# Altium integrated library TI Power Management Lighting and Display.IntLib: 745 symbols (part 15 of 48)
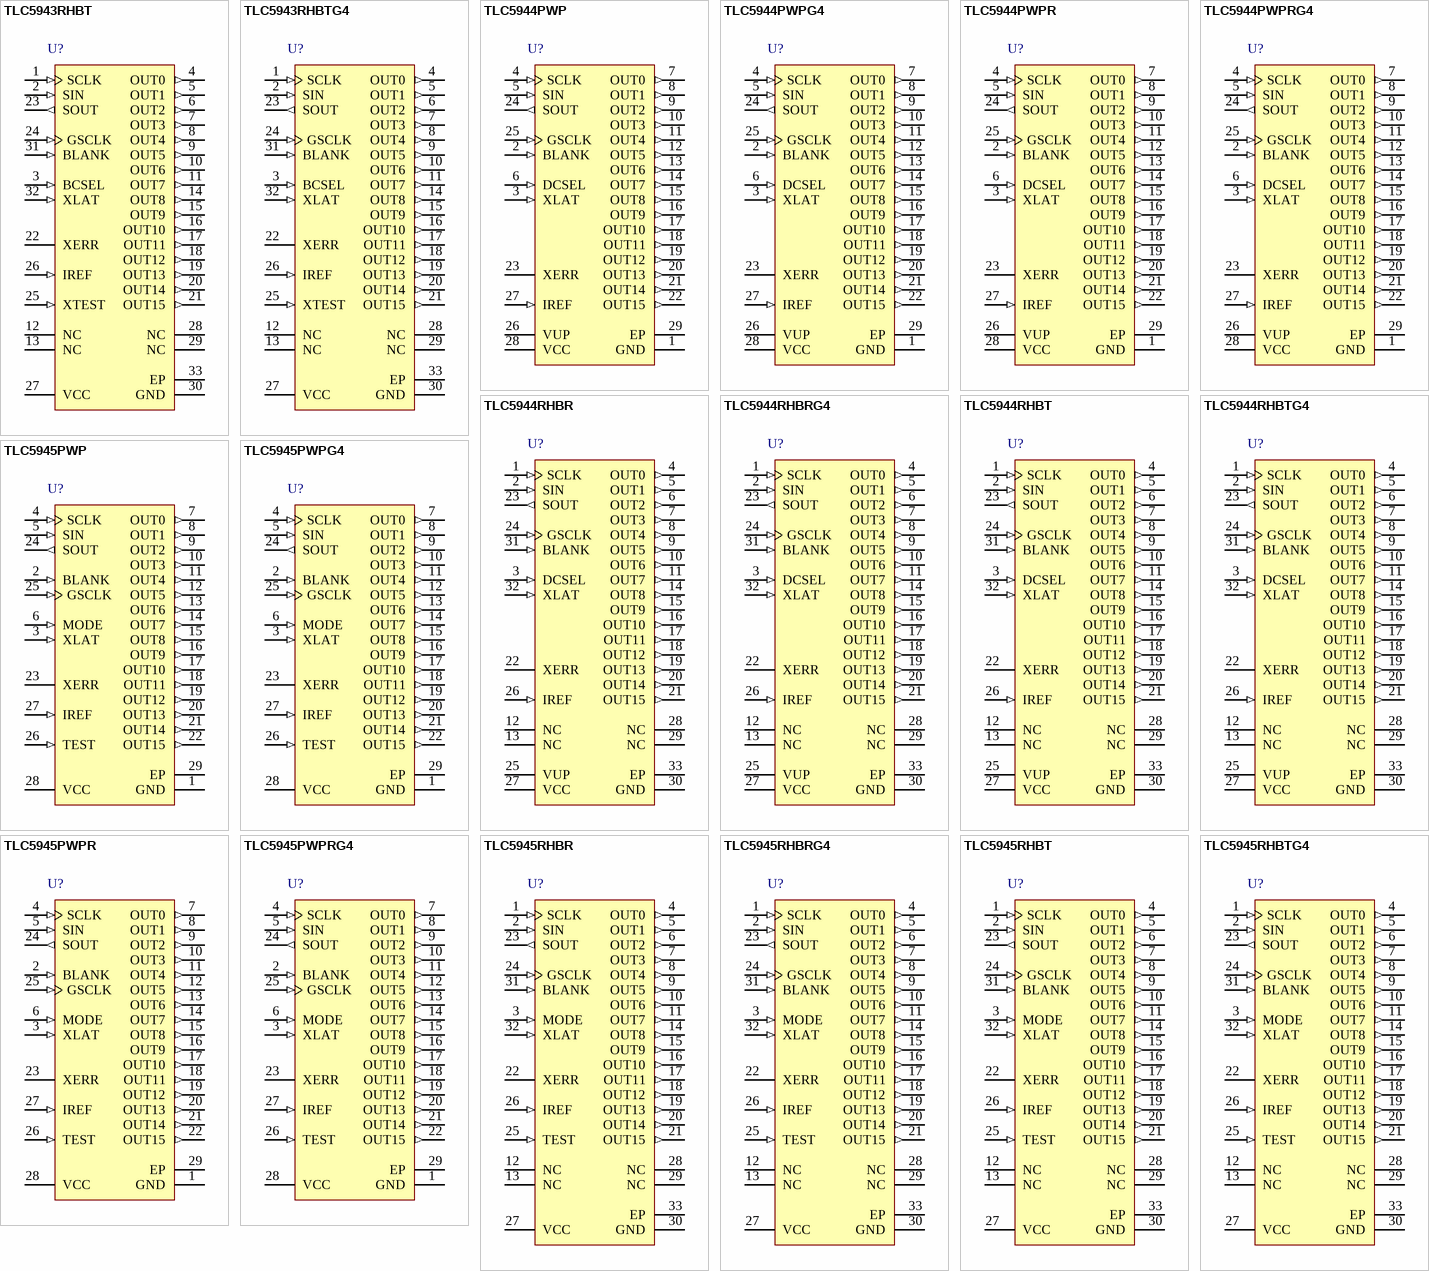
[diagram p45: symbols TLC5943RHBT to TLC5945RHBTG4]

## TLC5945PWPRG4
designator U?
16-Channel LED Driver with DOT Correction & Grayscale PWM Control & No Delay, 3 to 5.5 V, -40 to 85 degC, 28-pin SOP (PWP28), Green (RoHS & no Sb/Br); Manufacturer: Texas Instruments; PartNumber: TLC5945PWPRG4; Rating: Catalog; SubFamily: Signage/Linear; Vin(Max)(V): 5.5; Vin(Min)(V): 3; DatasheetVersion: SLVS755; PackageVersion: 4073225-6/I; PackageReference: PWP28-5720X1950TP; PackageDescription: 28-Pin Plastic Small Outline, Body 4.4 x 9.7 mm, Pitch 0.65 mm; Supplier 1: Digi-Key; Supplier Part Number 1: TLC5945PWPRG4-ND; Supplier 2: Mouser; Supplier Part Number 2: 595-TLC5945PWPRG4; Eco-Plan: Green (RoHS & no Sb/Br); Mounting Technology: Surface Mount; Code_JEDEC: MO-153; ComponentLink1Description: Manufacturer URL; ComponentLink1URL: http://www.ti.com/; ComponentLink2Description: Datasheet; ComponentLink2URL: http://www.ti.com/general/docs/lit/getliterature.tsp?genericPartNumber=TPS60251&fileType=pdf; ComponentLink3Description: Package Specification; ComponentLink3URL: http://www.ti.com/litv/pdf/mpds373
footprint TI-PWP28-5720X1950TP_N (SOP, 28-Leads, Body 9.7x4.4mm, Pitch 0.65mm, Thermal Pad 5.72 x 1.95mm, IPC Medium Density)
footprint TI-PWP28-5720X1950TP_L (SOP, 28-Leads, Body 9.7x4.4mm, Pitch 0.65mm, Thermal Pad 5.72 x 1.95mm, IPC High Density)
footprint TI-PWP28-5720X1950TP_M (SOP, 28-Leads, Body 9.7x4.4mm, Pitch 0.65mm, Thermal Pad 5.72 x 1.95mm, IPC Low Density)
pins: 1 GND (power) "Ground", 2 BLANK (in) "Blank all outputs. When BLANK is high, all OUTn outputs are forced OFF. GS counter is also reset. When BLANK is low, OUTn are controlled by the grayscale PWM control.", 3 XLAT (in) "Level triggered latch signal. When XLAT is high, the TLC59401 writes data from the input shift register to either GS register (MODE is low) or DC register (MODE is high). When XLAT is low, the data in the GS or DC registers (See Datasheet)", 4 SCLK (in) "Serial data shift clock", 5 SIN (in) "Serial data input", 6 MODE (in) "Input mode-change pin. When MODE = GND, the device is in GS mode. When MODE = VCC, the device is in DC mode.", 7 OUT0 (out) "Constant-current output. Multiple outputs can be configured in parallel to increase the constant-current capability. Different voltages can be applied to each output.", 8 OUT1 (out) "Constant-current output", 9 OUT2 (out) "Constant-current output", 10 OUT3 (out) "Constant-current output", 11 OUT4 (out) "Constant-current output", 12 OUT5 (out) "Constant-current output", 13 OUT6 (out) "Constant-current output", 14 OUT7 (out) "Constant-current output", 15 OUT8 (out) "Constant-current output", 16 OUT9 (out) "Constant-current output", 17 OUT10 (out) "Constant-current output", 18 OUT11 (out) "Constant-current output", 19 OUT12 (out) "Constant-current output", 20 OUT13 (out) "Constant-current output", 21 OUT14 (out) "Constant-current output", 22 OUT15 (out) "Constant-current output", 23 XERR (hiz) "Error output. XERR is an open-drain terminal. XERR goes low when LOD or TEF is detected.", 24 SOUT (out) "Serial data output", 25 GSCLK (in) "Reference clock for grayscale PWM control", 26 TEST (in) "Test pin: TEST must be connected to VCC", 27 IREF (in) "Reference current terminal. The maximum current for the outputs OUT0-OUT15 is set with a resistor from IREF to GND. Any capacitance does not need to be connected between IREF and GND.", 28 VCC (power) "Power-supply voltage", 29 EP

## TLC5945RHBR
designator U?
16-Channel LED Driver with DOT Correction & Grayscale PWM Control & No Delay, 3 to 5.5 V, -40 to 85 degC, 32-pin QFN (RHB32), Green (RoHS & no Sb/Br); Manufacturer: Texas Instruments; PartNumber: TLC5945RHBR; Rating: Catalog; SubFamily: Signage/Linear; Vin(Max)(V): 5.5; Vin(Min)(V): 3; DatasheetVersion: SLVS755; PackageVersion: 4204326/D; PackageReference: RHB32-3450X3450TP; PackageDescription: 32-Pin Plastic Flat Pack, Body 5 x 5 mm, Pitch 0.5 mm; Supplier 1: Digi-Key; Supplier Part Number 1: 296-21863-2-ND; Supplier 2: Digi-Key; Supplier Part Number 2: 296-21863-1-ND; Supplier 3: Digi-Key; Supplier Part Number 3: 296-21863-6-ND; Supplier 4: Newark; Supplier Part Number 4: 41M5434; Supplier 5: Mouser; Supplier Part Number 5: 595-TLC5945RHBR; Eco-Plan: Green (RoHS & no Sb/Br); Mounting Technology: Surface Mount; Code_JEDEC: MO-220; ComponentLink1Description: Manufacturer URL; ComponentLink1URL: http://www.ti.com/; ComponentLink2Description: Datasheet; ComponentLink2URL: http://www.ti.com/general/docs/lit/getliterature.tsp?genericPartNumber=TLC5945&fileType=pdf; ComponentLink3Description: Package Specification; ComponentLink3URL: http://www.ti.com/lit/ml/mpqf130c/mpqf130c.pdf
footprint TI-RHB32-3450X3450TP_V (QFN, 32-Leads, Body 5x5mm, Pitch 0.5mm, Thermal Pad 3.45x3.45mm)
pins: 1 SCLK (in) "Serial data shift clock", 2 SIN (in) "Serial data input", 3 MODE (in) "Input mode-change pin. When MODE = GND, the device is in GS mode. When MODE = VCC, the device is in DC mode.", 4 OUT0 (out) "Constant-current output. Multiple outputs can be configured in parallel to increase the constant-current capability. Different voltages can be applied to each output.", 5 OUT1 (out) "Constant-current output", 6 OUT2 (out) "Constant-current output", 7 OUT3 (out) "Constant-current output", 8 OUT4 (out) "Constant-current output", 9 OUT5 (out) "Constant-current output", 10 OUT6 (out) "Constant-current output", 11 OUT7 (out) "Constant-current output", 12 NC "No connection", 13 NC "No connection", 14 OUT8 (out) "Constant-current output", 15 OUT9 (out) "Constant-current output", 16 OUT10 (out) "Constant-current output", 17 OUT11 (out) "Constant-current output", 18 OUT12 (out) "Constant-current output", 19 OUT13 (out) "Constant-current output", 20 OUT14 (out) "Constant-current output", 21 OUT15 (out) "Constant-current output", 22 XERR (hiz) "Error output. XERR is an open-drain terminal. XERR goes low when LOD or TEF is detected.", 23 SOUT (out) "Serial data output", 24 GSCLK (in) "Reference clock for grayscale PWM control", 25 TEST (in) "Test pin: TEST must be connected to VCC", 26 IREF (in) "Reference current terminal. The maximum current for the outputs OUT0-OUT15 is set with a resistor from IREF to GND. Any capacitance does not need to be connected between IREF and GND.", 27 VCC (power) "Power-supply voltage", 28 NC "No connection", 29 NC "No connection", 30 GND (power) "Ground", 31 BLANK (in) "Blank all outputs. When BLANK is high, all OUTn outputs are forced OFF. GS counter is also reset. When BLANK is low, OUTn are controlled by the grayscale PWM control.", 32 XLAT (in) "Level triggered latch signal. When XLAT is high, the TLC59401 writes data from the input shift register to either GS register (MODE is low) or DC register (MODE is high). When XLAT is low, the data in the GS or DC registers (See Datasheet)", 33 EP

## TLC5945RHBRG4
designator U?
16-Channel LED Driver with DOT Correction & Grayscale PWM Control & No Delay, 3 to 5.5 V, -40 to 85 degC, 32-pin QFN (RHB32), Green (RoHS & no Sb/Br); Manufacturer: Texas Instruments; PartNumber: TLC5945RHBRG4; Rating: Catalog; SubFamily: Signage/Linear; Vin(Max)(V): 5.5; Vin(Min)(V): 3; DatasheetVersion: SLVS755; PackageVersion: 4204326/D; PackageReference: RHB32-3450X3450TP; PackageDescription: 32-Pin Plastic Flat Pack, Body 5 x 5 mm, Pitch 0.5 mm; Supplier 1: Digi-Key; Supplier Part Number 1: TLC5945RHBRG4-ND; Supplier 2: Mouser; Supplier Part Number 2: 595-TLC5945RHBRG4; Eco-Plan: Green (RoHS & no Sb/Br); Mounting Technology: Surface Mount; Code_JEDEC: MO-220; ComponentLink1Description: Manufacturer URL; ComponentLink1URL: http://www.ti.com/; ComponentLink2Description: Datasheet; ComponentLink2URL: http://www.ti.com/general/docs/lit/getliterature.tsp?genericPartNumber=TLC5945&fileType=pdf; ComponentLink3Description: Package Specification; ComponentLink3URL: http://www.ti.com/lit/ml/mpqf130c/mpqf130c.pdf
footprint TI-RHB32-3450X3450TP_V (QFN, 32-Leads, Body 5x5mm, Pitch 0.5mm, Thermal Pad 3.45x3.45mm)
pins: 1 SCLK (in) "Serial data shift clock", 2 SIN (in) "Serial data input", 3 MODE (in) "Input mode-change pin. When MODE = GND, the device is in GS mode. When MODE = VCC, the device is in DC mode.", 4 OUT0 (out) "Constant-current output. Multiple outputs can be configured in parallel to increase the constant-current capability. Different voltages can be applied to each output.", 5 OUT1 (out) "Constant-current output", 6 OUT2 (out) "Constant-current output", 7 OUT3 (out) "Constant-current output", 8 OUT4 (out) "Constant-current output", 9 OUT5 (out) "Constant-current output", 10 OUT6 (out) "Constant-current output", 11 OUT7 (out) "Constant-current output", 12 NC "No connection", 13 NC "No connection", 14 OUT8 (out) "Constant-current output", 15 OUT9 (out) "Constant-current output", 16 OUT10 (out) "Constant-current output", 17 OUT11 (out) "Constant-current output", 18 OUT12 (out) "Constant-current output", 19 OUT13 (out) "Constant-current output", 20 OUT14 (out) "Constant-current output", 21 OUT15 (out) "Constant-current output", 22 XERR (hiz) "Error output. XERR is an open-drain terminal. XERR goes low when LOD or TEF is detected.", 23 SOUT (out) "Serial data output", 24 GSCLK (in) "Reference clock for grayscale PWM control", 25 TEST (in) "Test pin: TEST must be connected to VCC", 26 IREF (in) "Reference current terminal. The maximum current for the outputs OUT0-OUT15 is set with a resistor from IREF to GND. Any capacitance does not need to be connected between IREF and GND.", 27 VCC (power) "Power-supply voltage", 28 NC "No connection", 29 NC "No connection", 30 GND (power) "Ground", 31 BLANK (in) "Blank all outputs. When BLANK is high, all OUTn outputs are forced OFF. GS counter is also reset. When BLANK is low, OUTn are controlled by the grayscale PWM control.", 32 XLAT (in) "Level triggered latch signal. When XLAT is high, the TLC59401 writes data from the input shift register to either GS register (MODE is low) or DC register (MODE is high). When XLAT is low, the data in the GS or DC registers (See Datasheet)", 33 EP

## TLC5945RHBT
designator U?
16-Channel LED Driver with DOT Correction & Grayscale PWM Control & No Delay, 3 to 5.5 V, -40 to 85 degC, 32-pin QFN (RHB32), Green (RoHS & no Sb/Br); Manufacturer: Texas Instruments; PartNumber: TLC5945RHBT; Rating: Catalog; SubFamily: Signage/Linear; Vin(Max)(V): 5.5; Vin(Min)(V): 3; DatasheetVersion: SLVS755; PackageVersion: 4204326/D; PackageReference: RHB32-3450X3450TP; PackageDescription: 32-Pin Plastic Flat Pack, Body 5 x 5 mm, Pitch 0.5 mm; Supplier 1: Digi-Key; Supplier Part Number 1: TLC5945RHBT-ND; Supplier 2: Mouser; Supplier Part Number 2: 595-TLC5945RHBT; Eco-Plan: Green (RoHS & no Sb/Br); Mounting Technology: Surface Mount; Code_JEDEC: MO-220; ComponentLink1Description: Manufacturer URL; ComponentLink1URL: http://www.ti.com/; ComponentLink2Description: Datasheet; ComponentLink2URL: http://www.ti.com/general/docs/lit/getliterature.tsp?genericPartNumber=TLC5945&fileType=pdf; ComponentLink3Description: Package Specification; ComponentLink3URL: http://www.ti.com/lit/ml/mpqf130c/mpqf130c.pdf
footprint TI-RHB32-3450X3450TP_V (QFN, 32-Leads, Body 5x5mm, Pitch 0.5mm, Thermal Pad 3.45x3.45mm)
pins: 1 SCLK (in) "Serial data shift clock", 2 SIN (in) "Serial data input", 3 MODE (in) "Input mode-change pin. When MODE = GND, the device is in GS mode. When MODE = VCC, the device is in DC mode.", 4 OUT0 (out) "Constant-current output. Multiple outputs can be configured in parallel to increase the constant-current capability. Different voltages can be applied to each output.", 5 OUT1 (out) "Constant-current output", 6 OUT2 (out) "Constant-current output", 7 OUT3 (out) "Constant-current output", 8 OUT4 (out) "Constant-current output", 9 OUT5 (out) "Constant-current output", 10 OUT6 (out) "Constant-current output", 11 OUT7 (out) "Constant-current output", 12 NC "No connection", 13 NC "No connection", 14 OUT8 (out) "Constant-current output", 15 OUT9 (out) "Constant-current output", 16 OUT10 (out) "Constant-current output", 17 OUT11 (out) "Constant-current output", 18 OUT12 (out) "Constant-current output", 19 OUT13 (out) "Constant-current output", 20 OUT14 (out) "Constant-current output", 21 OUT15 (out) "Constant-current output", 22 XERR (hiz) "Error output. XERR is an open-drain terminal. XERR goes low when LOD or TEF is detected.", 23 SOUT (out) "Serial data output", 24 GSCLK (in) "Reference clock for grayscale PWM control", 25 TEST (in) "Test pin: TEST must be connected to VCC", 26 IREF (in) "Reference current terminal. The maximum current for the outputs OUT0-OUT15 is set with a resistor from IREF to GND. Any capacitance does not need to be connected between IREF and GND.", 27 VCC (power) "Power-supply voltage", 28 NC "No connection", 29 NC "No connection", 30 GND (power) "Ground", 31 BLANK (in) "Blank all outputs. When BLANK is high, all OUTn outputs are forced OFF. GS counter is also reset. When BLANK is low, OUTn are controlled by the grayscale PWM control.", 32 XLAT (in) "Level triggered latch signal. When XLAT is high, the TLC59401 writes data from the input shift register to either GS register (MODE is low) or DC register (MODE is high). When XLAT is low, the data in the GS or DC registers (See Datasheet)", 33 EP

## TLC5945RHBTG4
designator U?
16-Channel LED Driver with DOT Correction & Grayscale PWM Control & No Delay, 3 to 5.5 V, -40 to 85 degC, 32-pin QFN (RHB32), Green (RoHS & no Sb/Br); Manufacturer: Texas Instruments; PartNumber: TLC5945RHBTG4; Rating: Catalog; SubFamily: Signage/Linear; Vin(Max)(V): 5.5; Vin(Min)(V): 3; DatasheetVersion: SLVS755; PackageVersion: 4204326/D; PackageReference: RHB32-3450X3450TP; PackageDescription: 32-Pin Plastic Flat Pack, Body 5 x 5 mm, Pitch 0.5 mm; Supplier 1: Digi-Key; Supplier Part Number 1: TLC5945RHBTG4-ND; Supplier 2: Mouser; Supplier Part Number 2: 595-TLC5945RHBTG4; Eco-Plan: Green (RoHS & no Sb/Br); Mounting Technology: Surface Mount; Code_JEDEC: MO-220; ComponentLink1Description: Manufacturer URL; ComponentLink1URL: http://www.ti.com/; ComponentLink2Description: Datasheet; ComponentLink2URL: http://www.ti.com/general/docs/lit/getliterature.tsp?genericPartNumber=TLC5945&fileType=pdf; ComponentLink3Description: Package Specification; ComponentLink3URL: http://www.ti.com/lit/ml/mpqf130c/mpqf130c.pdf
footprint TI-RHB32-3450X3450TP_V (QFN, 32-Leads, Body 5x5mm, Pitch 0.5mm, Thermal Pad 3.45x3.45mm)
pins: 1 SCLK (in) "Serial data shift clock", 2 SIN (in) "Serial data input", 3 MODE (in) "Input mode-change pin. When MODE = GND, the device is in GS mode. When MODE = VCC, the device is in DC mode.", 4 OUT0 (out) "Constant-current output. Multiple outputs can be configured in parallel to increase the constant-current capability. Different voltages can be applied to each output.", 5 OUT1 (out) "Constant-current output", 6 OUT2 (out) "Constant-current output", 7 OUT3 (out) "Constant-current output", 8 OUT4 (out) "Constant-current output", 9 OUT5 (out) "Constant-current output", 10 OUT6 (out) "Constant-current output", 11 OUT7 (out) "Constant-current output", 12 NC "No connection", 13 NC "No connection", 14 OUT8 (out) "Constant-current output", 15 OUT9 (out) "Constant-current output", 16 OUT10 (out) "Constant-current output", 17 OUT11 (out) "Constant-current output", 18 OUT12 (out) "Constant-current output", 19 OUT13 (out) "Constant-current output", 20 OUT14 (out) "Constant-current output", 21 OUT15 (out) "Constant-current output", 22 XERR (hiz) "Error output. XERR is an open-drain terminal. XERR goes low when LOD or TEF is detected.", 23 SOUT (out) "Serial data output", 24 GSCLK (in) "Reference clock for grayscale PWM control", 25 TEST (in) "Test pin: TEST must be connected to VCC", 26 IREF (in) "Reference current terminal. The maximum current for the outputs OUT0-OUT15 is set with a resistor from IREF to GND. Any capacitance does not need to be connected between IREF and GND.", 27 VCC (power) "Power-supply voltage", 28 NC "No connection", 29 NC "No connection", 30 GND (power) "Ground", 31 BLANK (in) "Blank all outputs. When BLANK is high, all OUTn outputs are forced OFF. GS counter is also reset. When BLANK is low, OUTn are controlled by the grayscale PWM control.", 32 XLAT (in) "Level triggered latch signal. When XLAT is high, the TLC59401 writes data from the input shift register to either GS register (MODE is low) or DC register (MODE is high). When XLAT is low, the data in the GS or DC registers (See Datasheet)", 33 EP

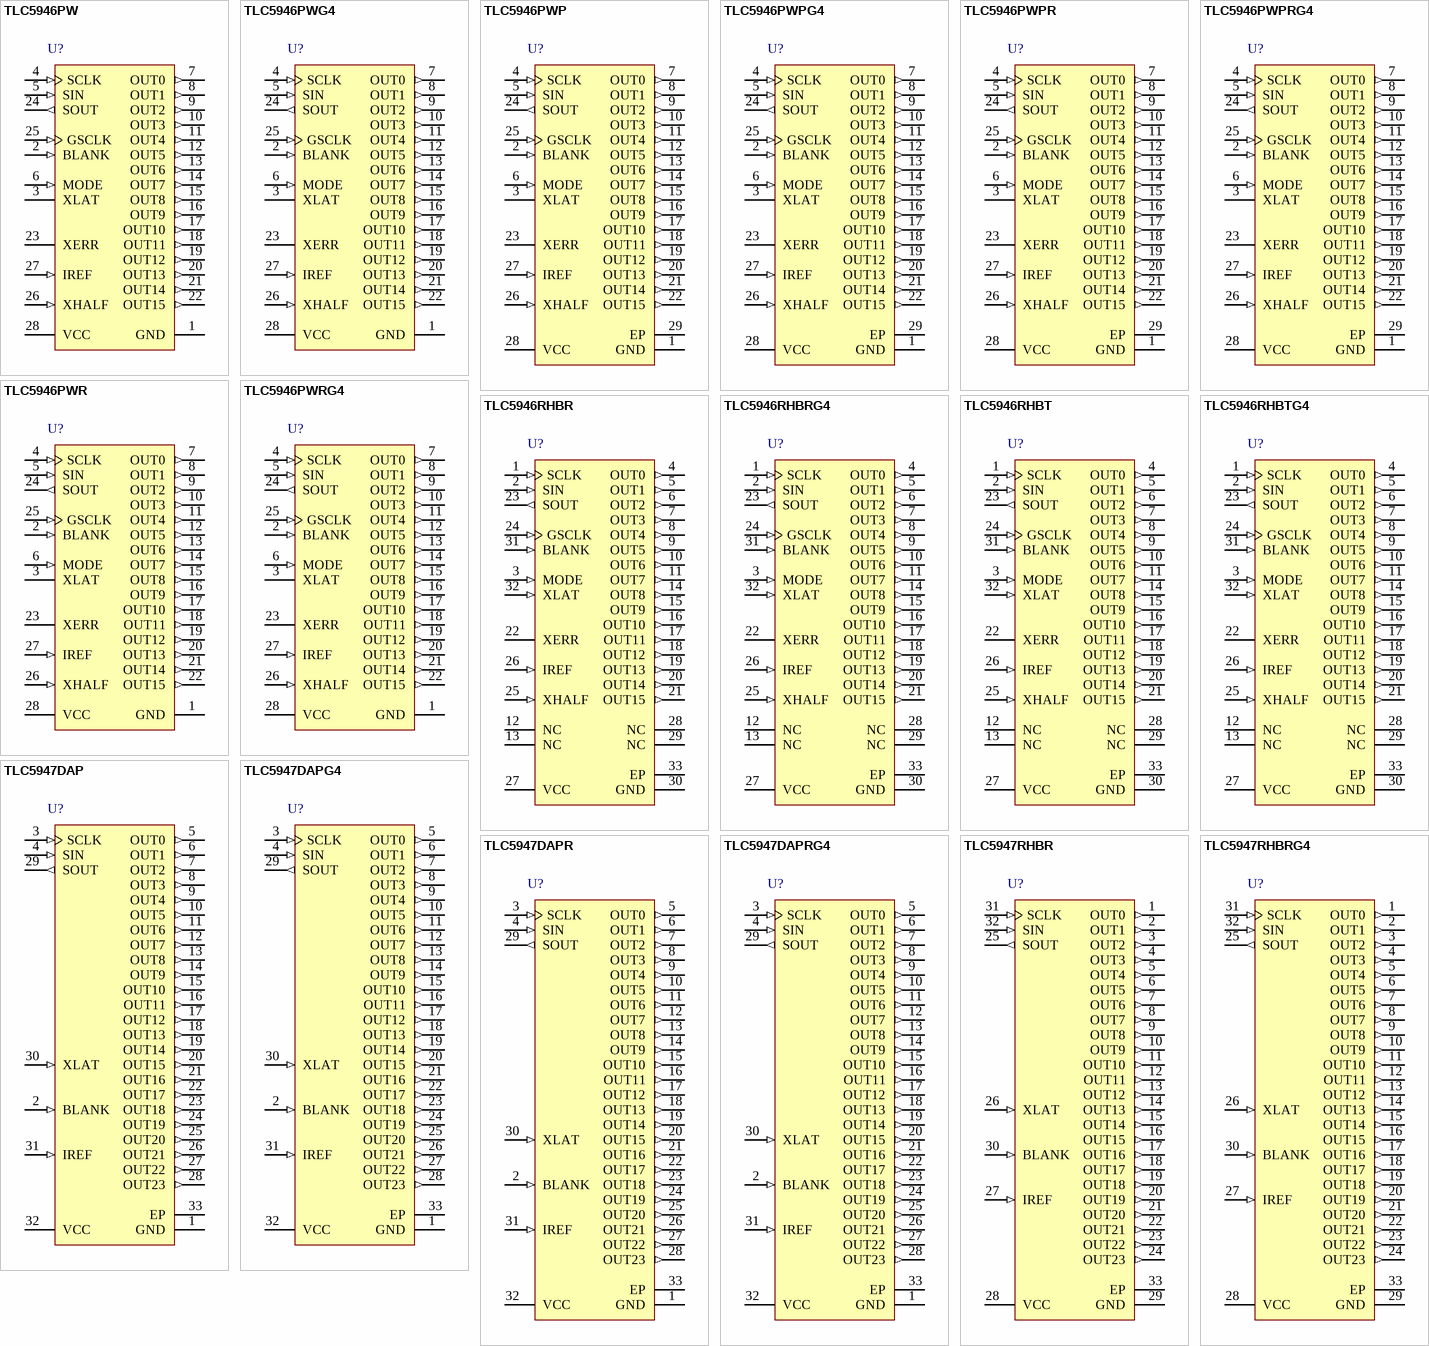
[diagram p11: symbols TLC5946PW to TLC5947RHBRG4]

## TLC5946PW
designator U?
16-Channel, 12-Bit PWM LED Driver with 6-Bit DOT Correction, 3 to 5.5 V, -40 to 85 degC, 28-pin SOP (PW28), Green (RoHS & no Sb/Br); Manufacturer: Texas Instruments; PartNumber: TLC5946PW; Iout(Max)(A): 0.04; Rating: Catalog; Vin(Max)(V): 5.5; Vin(Min)(V): 3; DatasheetVersion: SLVS824B; PackageVersion: 4040064-7/G; PackageReference: PW28; PackageDescription: 28-Pin Plastic Small Outline, Body 9.7 x 4.4 mm, Pitch 0.65 mm; Supplier 1: Digi-Key; Supplier Part Number 1: 296-23391-5-ND; Supplier 2: Newark; Supplier Part Number 2: 96M4786; Supplier 3: Mouser; Supplier Part Number 3: 595-TLC5946PW; Eco-Plan: Green (RoHS & no Sb/Br); SubFamily: LED Driver; Mounting Technology: Surface Mount; Code_JEDEC: MO-153; ComponentLink1Description: Manufacturer URL; ComponentLink1URL: http://www.ti.com/; ComponentLink2Description: Datasheet; ComponentLink2URL: http://www.ti.com/general/docs/lit/getliterature.tsp?genericPartNumber=TLC5946&fileType=pdf; ComponentLink3Description: Package Specification; ComponentLink3URL: http://www.ti.com/litv/pdf/mpds364
footprint TI-PW28_N (SOP, 28-Leads, Body 9.7x4.4mm, Pitch 0.65mm, IPC Medium Density)
footprint TI-PW28_L (SOP, 28-Leads, Body 9.7x4.4mm, Pitch 0.65mm, IPC High Density)
footprint TI-PW28_M (SOP, 28-Leads, Body 9.7x4.4mm, Pitch 0.65mm, IPC Low Density)
pins: 1 GND (power) "Ground", 2 BLANK (in) "Blank (all constant current outputs off). When BLANK is high, all constant current outputs (OUT0 through OUT15) are forced off, the Grayscale PWM timing controller initializes and the Grayscale counter resets to '0'. When (See Datasheet)", 3 XLAT "Edge triggered latch signal. At the rising edge of XLAT, the TLC5946 writes data from the input shift register to either the Dot Correction register (MODE = high) or the Grayscale register (MODE = low).", 4 SCLK (in) "Serial data shift clock", 5 SIN (in) "Serial data input", 6 MODE (in) "Input mode pin. When MODE is high, the input mode is dot correction (DC). When MODE is low, the input mode is grayscale (GS).", 7 OUT0 (out) "Constant current output", 8 OUT1 (out) "Constant current output", 9 OUT2 (out) "Constant current output", 10 OUT3 (out) "Constant current output", 11 OUT4 (out) "Constant current output", 12 OUT5 (out) "Constant current output", 13 OUT6 (out) "Constant current output", 14 OUT7 (out) "Constant current output", 15 OUT8 (out) "Constant current output", 16 OUT9 (out) "Constant current output", 17 OUT10 (out) "Constant current output", 18 OUT11 (out) "Constant current output", 19 OUT12 (out) "Constant current output", 20 OUT13 (out) "Constant current output", 21 OUT14 (out) "Constant current output", 22 OUT15 (out) "Constant current output", 23 XERR (hiz) "Error output. Open-drain output. XERR goes low when LOD or TEF is detected.", 24 SOUT (out) "Serial data output", 25 GSCLK (in) "Reference clock for Grayscale PWM control.", 26 XHALF (in) "Extended serial interface. When XHALF is high, the device operates normally. When XHALF is low, the extended serial interface is activated.", 27 IREF (in) "This pin sets the constant current value. OUT0 through OUT15 sink constant current is set to desired value by connecting an external resistor between IREF and GND.", 28 VCC (power) "Power-supply voltage"

## TLC5946PWG4
designator U?
16-Channel, 12-Bit PWM LED Driver with 6-Bit DOT Correction, 3 to 5.5 V, -40 to 85 degC, 28-pin SOP (PW28), Green (RoHS & no Sb/Br); Manufacturer: Texas Instruments; PartNumber: TLC5946PWG4; Iout(Max)(A): 0.04; Rating: Catalog; Vin(Max)(V): 5.5; Vin(Min)(V): 3; DatasheetVersion: SLVS824B; PackageVersion: 4040064-7/G; PackageReference: PW28; PackageDescription: 28-Pin Plastic Small Outline, Body 9.7 x 4.4 mm, Pitch 0.65 mm; Supplier 1: Digi-Key; Supplier Part Number 1: TLC5946PWG4-ND; Supplier 2: Mouser; Supplier Part Number 2: 595-TLC5946PWG4; Eco-Plan: Green (RoHS & no Sb/Br); SubFamily: LED Driver; Mounting Technology: Surface Mount; Code_JEDEC: MO-153; ComponentLink1Description: Manufacturer URL; ComponentLink1URL: http://www.ti.com/; ComponentLink2Description: Datasheet; ComponentLink2URL: http://www.ti.com/general/docs/lit/getliterature.tsp?genericPartNumber=TLC5946&fileType=pdf; ComponentLink3Description: Package Specification; ComponentLink3URL: http://www.ti.com/litv/pdf/mpds364
footprint TI-PW28_N (SOP, 28-Leads, Body 9.7x4.4mm, Pitch 0.65mm, IPC Medium Density)
footprint TI-PW28_L (SOP, 28-Leads, Body 9.7x4.4mm, Pitch 0.65mm, IPC High Density)
footprint TI-PW28_M (SOP, 28-Leads, Body 9.7x4.4mm, Pitch 0.65mm, IPC Low Density)
pins: 1 GND (power) "Ground", 2 BLANK (in) "Blank (all constant current outputs off). When BLANK is high, all constant current outputs (OUT0 through OUT15) are forced off, the Grayscale PWM timing controller initializes and the Grayscale counter resets to '0'. When (See Datasheet)", 3 XLAT "Edge triggered latch signal. At the rising edge of XLAT, the TLC5946 writes data from the input shift register to either the Dot Correction register (MODE = high) or the Grayscale register (MODE = low).", 4 SCLK (in) "Serial data shift clock", 5 SIN (in) "Serial data input", 6 MODE (in) "Input mode pin. When MODE is high, the input mode is dot correction (DC). When MODE is low, the input mode is grayscale (GS).", 7 OUT0 (out) "Constant current output", 8 OUT1 (out) "Constant current output", 9 OUT2 (out) "Constant current output", 10 OUT3 (out) "Constant current output", 11 OUT4 (out) "Constant current output", 12 OUT5 (out) "Constant current output", 13 OUT6 (out) "Constant current output", 14 OUT7 (out) "Constant current output", 15 OUT8 (out) "Constant current output", 16 OUT9 (out) "Constant current output", 17 OUT10 (out) "Constant current output", 18 OUT11 (out) "Constant current output", 19 OUT12 (out) "Constant current output", 20 OUT13 (out) "Constant current output", 21 OUT14 (out) "Constant current output", 22 OUT15 (out) "Constant current output", 23 XERR (hiz) "Error output. Open-drain output. XERR goes low when LOD or TEF is detected.", 24 SOUT (out) "Serial data output", 25 GSCLK (in) "Reference clock for Grayscale PWM control.", 26 XHALF (in) "Extended serial interface. When XHALF is high, the device operates normally. When XHALF is low, the extended serial interface is activated.", 27 IREF (in) "This pin sets the constant current value. OUT0 through OUT15 sink constant current is set to desired value by connecting an external resistor between IREF and GND.", 28 VCC (power) "Power-supply voltage"

## TLC5946PWP
designator U?
16-Channel, 12-Bit PWM LED Driver with 6-Bit DOT Correction, 3 to 5.5 V, -40 to 85 degC, 28-pin SOP (PWP28), Green (RoHS & no Sb/Br); Manufacturer: Texas Instruments; PartNumber: TLC5946PWP; Iout(Max)(A): 0.04; Rating: Catalog; Vin(Max)(V): 5.5; Vin(Min)(V): 3; DatasheetVersion: SLVS824B; PackageVersion: 4073225-6/I; PackageReference: PWP28-5720X1950TP; PackageDescription: 28-Pin Plastic Small Outline, Body 4.4 x 9.7 mm, Pitch 0.65 mm; Supplier 1: Digi-Key; Supplier Part Number 1: 296-23392-5-ND; Supplier 2: Farnell; Supplier Part Number 2: 1755258; Supplier 3: Newark; Supplier Part Number 3: 96M4787; Supplier 4: Mouser; Supplier Part Number 4: 595-TLC5946PWP; Eco-Plan: Green (RoHS & no Sb/Br); SubFamily: LED Driver; Mounting Technology: Surface Mount; Code_JEDEC: MO-153; ComponentLink1Description: Manufacturer URL; ComponentLink1URL: http://www.ti.com/; ComponentLink2Description: Datasheet; ComponentLink2URL: http://www.ti.com/general/docs/lit/getliterature.tsp?genericPartNumber=TLC5946&fileType=pdf; ComponentLink3Description: Package Specification; ComponentLink3URL: http://www.ti.com/litv/pdf/mpds373
footprint TI-PWP28-5720X1950TP_N (SOP, 28-Leads, Body 9.7x4.4mm, Pitch 0.65mm, Thermal Pad 5.72 x 1.95mm, IPC Medium Density)
footprint TI-PWP28-5720X1950TP_L (SOP, 28-Leads, Body 9.7x4.4mm, Pitch 0.65mm, Thermal Pad 5.72 x 1.95mm, IPC High Density)
footprint TI-PWP28-5720X1950TP_M (SOP, 28-Leads, Body 9.7x4.4mm, Pitch 0.65mm, Thermal Pad 5.72 x 1.95mm, IPC Low Density)
pins: 1 GND (power) "Ground", 2 BLANK (in) "Blank (all constant current outputs off). When BLANK is high, all constant current outputs (OUT0 through OUT15) are forced off, the Grayscale PWM timing controller initializes and the Grayscale counter resets to '0'. When (See Datasheet)", 3 XLAT "Edge triggered latch signal. At the rising edge of XLAT, the TLC5946 writes data from the input shift register to either the Dot Correction register (MODE = high) or the Grayscale register (MODE = low).", 4 SCLK (in) "Serial data shift clock", 5 SIN (in) "Serial data input", 6 MODE (in) "Input mode pin. When MODE is high, the input mode is dot correction (DC). When MODE is low, the input mode is grayscale (GS).", 7 OUT0 (out) "Constant current output", 8 OUT1 (out) "Constant current output", 9 OUT2 (out) "Constant current output", 10 OUT3 (out) "Constant current output", 11 OUT4 (out) "Constant current output", 12 OUT5 (out) "Constant current output", 13 OUT6 (out) "Constant current output", 14 OUT7 (out) "Constant current output", 15 OUT8 (out) "Constant current output", 16 OUT9 (out) "Constant current output", 17 OUT10 (out) "Constant current output", 18 OUT11 (out) "Constant current output", 19 OUT12 (out) "Constant current output", 20 OUT13 (out) "Constant current output", 21 OUT14 (out) "Constant current output", 22 OUT15 (out) "Constant current output", 23 XERR (hiz) "Error output. Open-drain output. XERR goes low when LOD or TEF is detected.", 24 SOUT (out) "Serial data output", 25 GSCLK (in) "Reference clock for Grayscale PWM control.", 26 XHALF (in) "Extended serial interface. When XHALF is high, the device operates normally. When XHALF is low, the extended serial interface is activated.", 27 IREF (in) "This pin sets the constant current value. OUT0 through OUT15 sink constant current is set to desired value by connecting an external resistor between IREF and GND.", 28 VCC (power) "Power-supply voltage", 29 EP

## TLC5946PWPG4
designator U?
16-Channel, 12-Bit PWM LED Driver with 6-Bit DOT Correction, 3 to 5.5 V, -40 to 85 degC, 28-pin SOP (PWP28), Green (RoHS & no Sb/Br); Manufacturer: Texas Instruments; PartNumber: TLC5946PWPG4; Iout(Max)(A): 0.04; Rating: Catalog; Vin(Max)(V): 5.5; Vin(Min)(V): 3; DatasheetVersion: SLVS824B; PackageVersion: 4073225-6/I; PackageReference: PWP28-5720X1950TP; PackageDescription: 28-Pin Plastic Small Outline, Body 4.4 x 9.7 mm, Pitch 0.65 mm; Supplier 1: Digi-Key; Supplier Part Number 1: TLC5946PWPG4-ND; Supplier 2: Mouser; Supplier Part Number 2: 595-TLC5946PWPG4; Eco-Plan: Green (RoHS & no Sb/Br); SubFamily: LED Driver; Mounting Technology: Surface Mount; Code_JEDEC: MO-153; ComponentLink1Description: Manufacturer URL; ComponentLink1URL: http://www.ti.com/; ComponentLink2Description: Datasheet; ComponentLink2URL: http://www.ti.com/general/docs/lit/getliterature.tsp?genericPartNumber=TLC5946&fileType=pdf; ComponentLink3Description: Package Specification; ComponentLink3URL: http://www.ti.com/litv/pdf/mpds373
footprint TI-PWP28-5720X1950TP_N (SOP, 28-Leads, Body 9.7x4.4mm, Pitch 0.65mm, Thermal Pad 5.72 x 1.95mm, IPC Medium Density)
footprint TI-PWP28-5720X1950TP_L (SOP, 28-Leads, Body 9.7x4.4mm, Pitch 0.65mm, Thermal Pad 5.72 x 1.95mm, IPC High Density)
footprint TI-PWP28-5720X1950TP_M (SOP, 28-Leads, Body 9.7x4.4mm, Pitch 0.65mm, Thermal Pad 5.72 x 1.95mm, IPC Low Density)
pins: 1 GND (power) "Ground", 2 BLANK (in) "Blank (all constant current outputs off). When BLANK is high, all constant current outputs (OUT0 through OUT15) are forced off, the Grayscale PWM timing controller initializes and the Grayscale counter resets to '0'. When (See Datasheet)", 3 XLAT "Edge triggered latch signal. At the rising edge of XLAT, the TLC5946 writes data from the input shift register to either the Dot Correction register (MODE = high) or the Grayscale register (MODE = low).", 4 SCLK (in) "Serial data shift clock", 5 SIN (in) "Serial data input", 6 MODE (in) "Input mode pin. When MODE is high, the input mode is dot correction (DC). When MODE is low, the input mode is grayscale (GS).", 7 OUT0 (out) "Constant current output", 8 OUT1 (out) "Constant current output", 9 OUT2 (out) "Constant current output", 10 OUT3 (out) "Constant current output", 11 OUT4 (out) "Constant current output", 12 OUT5 (out) "Constant current output", 13 OUT6 (out) "Constant current output", 14 OUT7 (out) "Constant current output", 15 OUT8 (out) "Constant current output", 16 OUT9 (out) "Constant current output", 17 OUT10 (out) "Constant current output", 18 OUT11 (out) "Constant current output", 19 OUT12 (out) "Constant current output", 20 OUT13 (out) "Constant current output", 21 OUT14 (out) "Constant current output", 22 OUT15 (out) "Constant current output", 23 XERR (hiz) "Error output. Open-drain output. XERR goes low when LOD or TEF is detected.", 24 SOUT (out) "Serial data output", 25 GSCLK (in) "Reference clock for Grayscale PWM control.", 26 XHALF (in) "Extended serial interface. When XHALF is high, the device operates normally. When XHALF is low, the extended serial interface is activated.", 27 IREF (in) "This pin sets the constant current value. OUT0 through OUT15 sink constant current is set to desired value by connecting an external resistor between IREF and GND.", 28 VCC (power) "Power-supply voltage", 29 EP

## TLC5946PWPR
designator U?
16-Channel, 12-Bit PWM LED Driver with 6-Bit DOT Correction, 3 to 5.5 V, -40 to 85 degC, 28-pin SOP (PWP28), Green (RoHS & no Sb/Br); Manufacturer: Texas Instruments; PartNumber: TLC5946PWPR; Iout(Max)(A): 0.04; Rating: Catalog; Vin(Max)(V): 5.5; Vin(Min)(V): 3; DatasheetVersion: SLVS824B; PackageVersion: 4073225-6/I; PackageReference: PWP28-5720X1950TP; PackageDescription: 28-Pin Plastic Small Outline, Body 4.4 x 9.7 mm, Pitch 0.65 mm; Supplier 1: Digi-Key; Supplier Part Number 1: TLC5946PWPR-ND; Supplier 2: Newark; Supplier Part Number 2: 96M4788; Supplier 3: Mouser; Supplier Part Number 3: 595-TLC5946PWPR; Eco-Plan: Green (RoHS & no Sb/Br); SubFamily: LED Driver; Mounting Technology: Surface Mount; Code_JEDEC: MO-153; ComponentLink1Description: Manufacturer URL; ComponentLink1URL: http://www.ti.com/; ComponentLink2Description: Datasheet; ComponentLink2URL: http://www.ti.com/general/docs/lit/getliterature.tsp?genericPartNumber=TLC5946&fileType=pdf; ComponentLink3Description: Package Specification; ComponentLink3URL: http://www.ti.com/litv/pdf/mpds373
footprint TI-PWP28-5720X1950TP_N (SOP, 28-Leads, Body 9.7x4.4mm, Pitch 0.65mm, Thermal Pad 5.72 x 1.95mm, IPC Medium Density)
footprint TI-PWP28-5720X1950TP_L (SOP, 28-Leads, Body 9.7x4.4mm, Pitch 0.65mm, Thermal Pad 5.72 x 1.95mm, IPC High Density)
footprint TI-PWP28-5720X1950TP_M (SOP, 28-Leads, Body 9.7x4.4mm, Pitch 0.65mm, Thermal Pad 5.72 x 1.95mm, IPC Low Density)
pins: 1 GND (power) "Ground", 2 BLANK (in) "Blank (all constant current outputs off). When BLANK is high, all constant current outputs (OUT0 through OUT15) are forced off, the Grayscale PWM timing controller initializes and the Grayscale counter resets to '0'. When (See Datasheet)", 3 XLAT "Edge triggered latch signal. At the rising edge of XLAT, the TLC5946 writes data from the input shift register to either the Dot Correction register (MODE = high) or the Grayscale register (MODE = low).", 4 SCLK (in) "Serial data shift clock", 5 SIN (in) "Serial data input", 6 MODE (in) "Input mode pin. When MODE is high, the input mode is dot correction (DC). When MODE is low, the input mode is grayscale (GS).", 7 OUT0 (out) "Constant current output", 8 OUT1 (out) "Constant current output", 9 OUT2 (out) "Constant current output", 10 OUT3 (out) "Constant current output", 11 OUT4 (out) "Constant current output", 12 OUT5 (out) "Constant current output", 13 OUT6 (out) "Constant current output", 14 OUT7 (out) "Constant current output", 15 OUT8 (out) "Constant current output", 16 OUT9 (out) "Constant current output", 17 OUT10 (out) "Constant current output", 18 OUT11 (out) "Constant current output", 19 OUT12 (out) "Constant current output", 20 OUT13 (out) "Constant current output", 21 OUT14 (out) "Constant current output", 22 OUT15 (out) "Constant current output", 23 XERR (hiz) "Error output. Open-drain output. XERR goes low when LOD or TEF is detected.", 24 SOUT (out) "Serial data output", 25 GSCLK (in) "Reference clock for Grayscale PWM control.", 26 XHALF (in) "Extended serial interface. When XHALF is high, the device operates normally. When XHALF is low, the extended serial interface is activated.", 27 IREF (in) "This pin sets the constant current value. OUT0 through OUT15 sink constant current is set to desired value by connecting an external resistor between IREF and GND.", 28 VCC (power) "Power-supply voltage", 29 EP

## TLC5946PWPRG4
designator U?
16-Channel, 12-Bit PWM LED Driver with 6-Bit DOT Correction, 3 to 5.5 V, -40 to 85 degC, 28-pin SOP (PWP28), Green (RoHS & no Sb/Br); Manufacturer: Texas Instruments; PartNumber: TLC5946PWPRG4; Iout(Max)(A): 0.04; Rating: Catalog; Vin(Max)(V): 5.5; Vin(Min)(V): 3; DatasheetVersion: SLVS824B; PackageVersion: 4073225-6/I; PackageReference: PWP28-5720X1950TP; PackageDescription: 28-Pin Plastic Small Outline, Body 4.4 x 9.7 mm, Pitch 0.65 mm; Supplier 1: Digi-Key; Supplier Part Number 1: TLC5946PWPRG4-ND; Supplier 2: Mouser; Supplier Part Number 2: 595-TLC5946PWPRG4; Eco-Plan: Green (RoHS & no Sb/Br); SubFamily: LED Driver; Mounting Technology: Surface Mount; Code_JEDEC: MO-153; ComponentLink1Description: Manufacturer URL; ComponentLink1URL: http://www.ti.com/; ComponentLink2Description: Datasheet; ComponentLink2URL: http://www.ti.com/general/docs/lit/getliterature.tsp?genericPartNumber=TLC5946&fileType=pdf; ComponentLink3Description: Package Specification; ComponentLink3URL: http://www.ti.com/litv/pdf/mpds373
footprint TI-PWP28-5720X1950TP_N (SOP, 28-Leads, Body 9.7x4.4mm, Pitch 0.65mm, Thermal Pad 5.72 x 1.95mm, IPC Medium Density)
footprint TI-PWP28-5720X1950TP_L (SOP, 28-Leads, Body 9.7x4.4mm, Pitch 0.65mm, Thermal Pad 5.72 x 1.95mm, IPC High Density)
footprint TI-PWP28-5720X1950TP_M (SOP, 28-Leads, Body 9.7x4.4mm, Pitch 0.65mm, Thermal Pad 5.72 x 1.95mm, IPC Low Density)
pins: 1 GND (power) "Ground", 2 BLANK (in) "Blank (all constant current outputs off). When BLANK is high, all constant current outputs (OUT0 through OUT15) are forced off, the Grayscale PWM timing controller initializes and the Grayscale counter resets to '0'. When (See Datasheet)", 3 XLAT "Edge triggered latch signal. At the rising edge of XLAT, the TLC5946 writes data from the input shift register to either the Dot Correction register (MODE = high) or the Grayscale register (MODE = low).", 4 SCLK (in) "Serial data shift clock", 5 SIN (in) "Serial data input", 6 MODE (in) "Input mode pin. When MODE is high, the input mode is dot correction (DC). When MODE is low, the input mode is grayscale (GS).", 7 OUT0 (out) "Constant current output", 8 OUT1 (out) "Constant current output", 9 OUT2 (out) "Constant current output", 10 OUT3 (out) "Constant current output", 11 OUT4 (out) "Constant current output", 12 OUT5 (out) "Constant current output", 13 OUT6 (out) "Constant current output", 14 OUT7 (out) "Constant current output", 15 OUT8 (out) "Constant current output", 16 OUT9 (out) "Constant current output", 17 OUT10 (out) "Constant current output", 18 OUT11 (out) "Constant current output", 19 OUT12 (out) "Constant current output", 20 OUT13 (out) "Constant current output", 21 OUT14 (out) "Constant current output", 22 OUT15 (out) "Constant current output", 23 XERR (hiz) "Error output. Open-drain output. XERR goes low when LOD or TEF is detected.", 24 SOUT (out) "Serial data output", 25 GSCLK (in) "Reference clock for Grayscale PWM control.", 26 XHALF (in) "Extended serial interface. When XHALF is high, the device operates normally. When XHALF is low, the extended serial interface is activated.", 27 IREF (in) "This pin sets the constant current value. OUT0 through OUT15 sink constant current is set to desired value by connecting an external resistor between IREF and GND.", 28 VCC (power) "Power-supply voltage", 29 EP

## TLC5946PWR
designator U?
16-Channel, 12-Bit PWM LED Driver with 6-Bit DOT Correction, 3 to 5.5 V, -40 to 85 degC, 28-pin SOP (PW28), Green (RoHS & no Sb/Br); Manufacturer: Texas Instruments; PartNumber: TLC5946PWR; Iout(Max)(A): 0.04; Rating: Catalog; Vin(Max)(V): 5.5; Vin(Min)(V): 3; DatasheetVersion: SLVS824B; PackageVersion: 4040064-7/G; PackageReference: PW28; PackageDescription: 28-Pin Plastic Small Outline, Body 9.7 x 4.4 mm, Pitch 0.65 mm; Supplier 1: Digi-Key; Supplier Part Number 1: TLC5946PWR-ND; Supplier 2: Mouser; Supplier Part Number 2: 595-TLC5946PWR; Eco-Plan: Green (RoHS & no Sb/Br); SubFamily: LED Driver; Mounting Technology: Surface Mount; Code_JEDEC: MO-153; ComponentLink1Description: Manufacturer URL; ComponentLink1URL: http://www.ti.com/; ComponentLink2Description: Datasheet; ComponentLink2URL: http://www.ti.com/general/docs/lit/getliterature.tsp?genericPartNumber=TLC5946&fileType=pdf; ComponentLink3Description: Package Specification; ComponentLink3URL: http://www.ti.com/litv/pdf/mpds364
footprint TI-PW28_N (SOP, 28-Leads, Body 9.7x4.4mm, Pitch 0.65mm, IPC Medium Density)
footprint TI-PW28_L (SOP, 28-Leads, Body 9.7x4.4mm, Pitch 0.65mm, IPC High Density)
footprint TI-PW28_M (SOP, 28-Leads, Body 9.7x4.4mm, Pitch 0.65mm, IPC Low Density)
pins: 1 GND (power) "Ground", 2 BLANK (in) "Blank (all constant current outputs off). When BLANK is high, all constant current outputs (OUT0 through OUT15) are forced off, the Grayscale PWM timing controller initializes and the Grayscale counter resets to '0'. When (See Datasheet)", 3 XLAT "Edge triggered latch signal. At the rising edge of XLAT, the TLC5946 writes data from the input shift register to either the Dot Correction register (MODE = high) or the Grayscale register (MODE = low).", 4 SCLK (in) "Serial data shift clock", 5 SIN (in) "Serial data input", 6 MODE (in) "Input mode pin. When MODE is high, the input mode is dot correction (DC). When MODE is low, the input mode is grayscale (GS).", 7 OUT0 (out) "Constant current output", 8 OUT1 (out) "Constant current output", 9 OUT2 (out) "Constant current output", 10 OUT3 (out) "Constant current output", 11 OUT4 (out) "Constant current output", 12 OUT5 (out) "Constant current output", 13 OUT6 (out) "Constant current output", 14 OUT7 (out) "Constant current output", 15 OUT8 (out) "Constant current output", 16 OUT9 (out) "Constant current output", 17 OUT10 (out) "Constant current output", 18 OUT11 (out) "Constant current output", 19 OUT12 (out) "Constant current output", 20 OUT13 (out) "Constant current output", 21 OUT14 (out) "Constant current output", 22 OUT15 (out) "Constant current output", 23 XERR (hiz) "Error output. Open-drain output. XERR goes low when LOD or TEF is detected.", 24 SOUT (out) "Serial data output", 25 GSCLK (in) "Reference clock for Grayscale PWM control.", 26 XHALF (in) "Extended serial interface. When XHALF is high, the device operates normally. When XHALF is low, the extended serial interface is activated.", 27 IREF (in) "This pin sets the constant current value. OUT0 through OUT15 sink constant current is set to desired value by connecting an external resistor between IREF and GND.", 28 VCC (power) "Power-supply voltage"

## TLC5946PWRG4
designator U?
16-Channel, 12-Bit PWM LED Driver with 6-Bit DOT Correction, 3 to 5.5 V, -40 to 85 degC, 28-pin SOP (PW28), Green (RoHS & no Sb/Br); Manufacturer: Texas Instruments; PartNumber: TLC5946PWRG4; Iout(Max)(A): 0.04; Rating: Catalog; Vin(Max)(V): 5.5; Vin(Min)(V): 3; DatasheetVersion: SLVS824B; PackageVersion: 4040064-7/G; PackageReference: PW28; PackageDescription: 28-Pin Plastic Small Outline, Body 9.7 x 4.4 mm, Pitch 0.65 mm; Supplier 1: Digi-Key; Supplier Part Number 1: TLC5946PWRG4-ND; Supplier 2: Mouser; Supplier Part Number 2: 595-TLC5946PWRG4; Eco-Plan: Green (RoHS & no Sb/Br); SubFamily: LED Driver; Mounting Technology: Surface Mount; Code_JEDEC: MO-153; ComponentLink1Description: Manufacturer URL; ComponentLink1URL: http://www.ti.com/; ComponentLink2Description: Datasheet; ComponentLink2URL: http://www.ti.com/general/docs/lit/getliterature.tsp?genericPartNumber=TLC5946&fileType=pdf; ComponentLink3Description: Package Specification; ComponentLink3URL: http://www.ti.com/litv/pdf/mpds364
footprint TI-PW28_N (SOP, 28-Leads, Body 9.7x4.4mm, Pitch 0.65mm, IPC Medium Density)
footprint TI-PW28_L (SOP, 28-Leads, Body 9.7x4.4mm, Pitch 0.65mm, IPC High Density)
footprint TI-PW28_M (SOP, 28-Leads, Body 9.7x4.4mm, Pitch 0.65mm, IPC Low Density)
pins: 1 GND (power) "Ground", 2 BLANK (in) "Blank (all constant current outputs off). When BLANK is high, all constant current outputs (OUT0 through OUT15) are forced off, the Grayscale PWM timing controller initializes and the Grayscale counter resets to '0'. When (See Datasheet)", 3 XLAT "Edge triggered latch signal. At the rising edge of XLAT, the TLC5946 writes data from the input shift register to either the Dot Correction register (MODE = high) or the Grayscale register (MODE = low).", 4 SCLK (in) "Serial data shift clock", 5 SIN (in) "Serial data input", 6 MODE (in) "Input mode pin. When MODE is high, the input mode is dot correction (DC). When MODE is low, the input mode is grayscale (GS).", 7 OUT0 (out) "Constant current output", 8 OUT1 (out) "Constant current output", 9 OUT2 (out) "Constant current output", 10 OUT3 (out) "Constant current output", 11 OUT4 (out) "Constant current output", 12 OUT5 (out) "Constant current output", 13 OUT6 (out) "Constant current output", 14 OUT7 (out) "Constant current output", 15 OUT8 (out) "Constant current output", 16 OUT9 (out) "Constant current output", 17 OUT10 (out) "Constant current output", 18 OUT11 (out) "Constant current output", 19 OUT12 (out) "Constant current output", 20 OUT13 (out) "Constant current output", 21 OUT14 (out) "Constant current output", 22 OUT15 (out) "Constant current output", 23 XERR (hiz) "Error output. Open-drain output. XERR goes low when LOD or TEF is detected.", 24 SOUT (out) "Serial data output", 25 GSCLK (in) "Reference clock for Grayscale PWM control.", 26 XHALF (in) "Extended serial interface. When XHALF is high, the device operates normally. When XHALF is low, the extended serial interface is activated.", 27 IREF (in) "This pin sets the constant current value. OUT0 through OUT15 sink constant current is set to desired value by connecting an external resistor between IREF and GND.", 28 VCC (power) "Power-supply voltage"

## TLC5946RHBR
designator U?
16-Channel, 12-Bit PWM LED Driver with 6-Bit DOT Correction, 3 to 5.5 V, -40 to 85 degC, 32-pin QFN (RHB32), Green (RoHS & no Sb/Br); Manufacturer: Texas Instruments; PartNumber: TLC5946RHBR; Iout(Max)(A): 0.04; Rating: Catalog; Vin(Max)(V): 5.5; Vin(Min)(V): 3; DatasheetVersion: SLVS824B; PackageVersion: 4204326/D; PackageReference: RHB32-3450X3450TP; PackageDescription: 32-Pin Plastic Flat Pack, Body 5 x 5 mm, Pitch 0.5 mm; Supplier 1: Digi-Key; Supplier Part Number 1: 296-23539-2-ND; Supplier 2: Digi-Key; Supplier Part Number 2: 296-23539-1-ND; Supplier 3: Digi-Key; Supplier Part Number 3: 296-23539-6-ND; Supplier 4: Newark; Supplier Part Number 4: 03P5010; Supplier 5: Mouser; Supplier Part Number 5: 595-TLC5946RHBR; Eco-Plan: Green (RoHS & no Sb/Br); SubFamily: LED Driver; Mounting Technology: Surface Mount; Code_JEDEC: MO-220; ComponentLink1Description: Manufacturer URL; ComponentLink1URL: http://www.ti.com/; ComponentLink2Description: Datasheet; ComponentLink2URL: http://www.ti.com/general/docs/lit/getliterature.tsp?genericPartNumber=TLC5946&fileType=pdf; ComponentLink3Description: Package Specification; ComponentLink3URL: http://www.ti.com/lit/ml/mpqf130c/mpqf130c.pdf
footprint TI-RHB32-3450X3450TP_V (QFN, 32-Leads, Body 5x5mm, Pitch 0.5mm, Thermal Pad 3.45x3.45mm)
pins: 1 SCLK (in) "Serial data shift clock", 2 SIN (in) "Serial data input", 3 MODE (in) "Input mode pin. When MODE is high, the input mode is dot correction (DC). When MODE is low, the input mode is grayscale (GS).", 4 OUT0 (out) "Constant current output", 5 OUT1 (out) "Constant current output", 6 OUT2 (out) "Constant current output", 7 OUT3 (out) "Constant current output", 8 OUT4 (out) "Constant current output", 9 OUT5 (out) "Constant current output", 10 OUT6 (out) "Constant current output", 11 OUT7 (out) "Constant current output", 12 NC "No connection", 13 NC "No connection", 14 OUT8 (out) "Constant current output", 15 OUT9 (out) "Constant current output", 16 OUT10 (out) "Constant current output", 17 OUT11 (out) "Constant current output", 18 OUT12 (out) "Constant current output", 19 OUT13 (out) "Constant current output", 20 OUT14 (out) "Constant current output", 21 OUT15 (out) "Constant current output", 22 XERR (hiz) "Error output. Open-drain output. XERR goes low when LOD or TEF is detected.", 23 SOUT (out) "Serial data output", 24 GSCLK (in) "Reference clock for Grayscale PWM control.", 25 XHALF (in) "Extended serial interface. When XHALF is high, the device operates normally. When XHALF is low, the extended serial interface is activated.", 26 IREF (in) "This pin sets the constant current value. OUT0 through OUT15 sink constant current is set to desired value by connecting an external resistor between IREF and GND.", 27 VCC (power) "Power-supply voltage", 28 NC "No connection", 29 NC "No connection", 30 GND (power) "Ground", 31 BLANK (in) "Blank (all constant current outputs off). When BLANK is high, all constant current outputs (OUT0 through OUT15) are forced off, the Grayscale PWM timing controller initializes and the Grayscale counter resets to '0'. When (See Datasheet)", 32 XLAT (in) "Edge triggered latch signal. At the rising edge of XLAT, the TLC5946 writes data from the input shift register to either the Dot Correction register (MODE = high) or the Grayscale register (MODE = low).", 33 EP

## TLC5946RHBRG4
designator U?
16-Channel, 12-Bit PWM LED Driver with 6-Bit DOT Correction, 3 to 5.5 V, -40 to 85 degC, 32-pin QFN (RHB32), Green (RoHS & no Sb/Br); Manufacturer: Texas Instruments; PartNumber: TLC5946RHBRG4; Iout(Max)(A): 0.04; Rating: Catalog; Vin(Max)(V): 5.5; Vin(Min)(V): 3; DatasheetVersion: SLVS824B; PackageVersion: 4204326/D; PackageReference: RHB32-3450X3450TP; PackageDescription: 32-Pin Plastic Flat Pack, Body 5 x 5 mm, Pitch 0.5 mm; Supplier 1: Digi-Key; Supplier Part Number 1: TLC5946RHBRG4-ND; Supplier 2: Newark; Supplier Part Number 2: 34P6418; Supplier 3: Mouser; Supplier Part Number 3: 595-TLC5946RHBRG4; Eco-Plan: Green (RoHS & no Sb/Br); SubFamily: LED Driver; Mounting Technology: Surface Mount; Code_JEDEC: MO-220; ComponentLink1Description: Manufacturer URL; ComponentLink1URL: http://www.ti.com/; ComponentLink2Description: Datasheet; ComponentLink2URL: http://www.ti.com/general/docs/lit/getliterature.tsp?genericPartNumber=TLC5946&fileType=pdf; ComponentLink3Description: Package Specification; ComponentLink3URL: http://www.ti.com/lit/ml/mpqf130c/mpqf130c.pdf
footprint TI-RHB32-3450X3450TP_V (QFN, 32-Leads, Body 5x5mm, Pitch 0.5mm, Thermal Pad 3.45x3.45mm)
pins: 1 SCLK (in) "Serial data shift clock", 2 SIN (in) "Serial data input", 3 MODE (in) "Input mode pin. When MODE is high, the input mode is dot correction (DC). When MODE is low, the input mode is grayscale (GS).", 4 OUT0 (out) "Constant current output", 5 OUT1 (out) "Constant current output", 6 OUT2 (out) "Constant current output", 7 OUT3 (out) "Constant current output", 8 OUT4 (out) "Constant current output", 9 OUT5 (out) "Constant current output", 10 OUT6 (out) "Constant current output", 11 OUT7 (out) "Constant current output", 12 NC "No connection", 13 NC "No connection", 14 OUT8 (out) "Constant current output", 15 OUT9 (out) "Constant current output", 16 OUT10 (out) "Constant current output", 17 OUT11 (out) "Constant current output", 18 OUT12 (out) "Constant current output", 19 OUT13 (out) "Constant current output", 20 OUT14 (out) "Constant current output", 21 OUT15 (out) "Constant current output", 22 XERR (hiz) "Error output. Open-drain output. XERR goes low when LOD or TEF is detected.", 23 SOUT (out) "Serial data output", 24 GSCLK (in) "Reference clock for Grayscale PWM control.", 25 XHALF (in) "Extended serial interface. When XHALF is high, the device operates normally. When XHALF is low, the extended serial interface is activated.", 26 IREF (in) "This pin sets the constant current value. OUT0 through OUT15 sink constant current is set to desired value by connecting an external resistor between IREF and GND.", 27 VCC (power) "Power-supply voltage", 28 NC "No connection", 29 NC "No connection", 30 GND (power) "Ground", 31 BLANK (in) "Blank (all constant current outputs off). When BLANK is high, all constant current outputs (OUT0 through OUT15) are forced off, the Grayscale PWM timing controller initializes and the Grayscale counter resets to '0'. When (See Datasheet)", 32 XLAT (in) "Edge triggered latch signal. At the rising edge of XLAT, the TLC5946 writes data from the input shift register to either the Dot Correction register (MODE = high) or the Grayscale register (MODE = low).", 33 EP